# Altium footprint library module&chips.PcbLib: 65 footprints (part 2 of 5)
Each footprint in its own frame and in the unit in brackets; x right, y up, seen from the top. Pads: shape width x height; smd on the part's side, far side on the other; paste and mask are expansions set on the pad; w line width, h text height; cw(c..) or ccw(c..) is an arc to the next point about the centre after c.
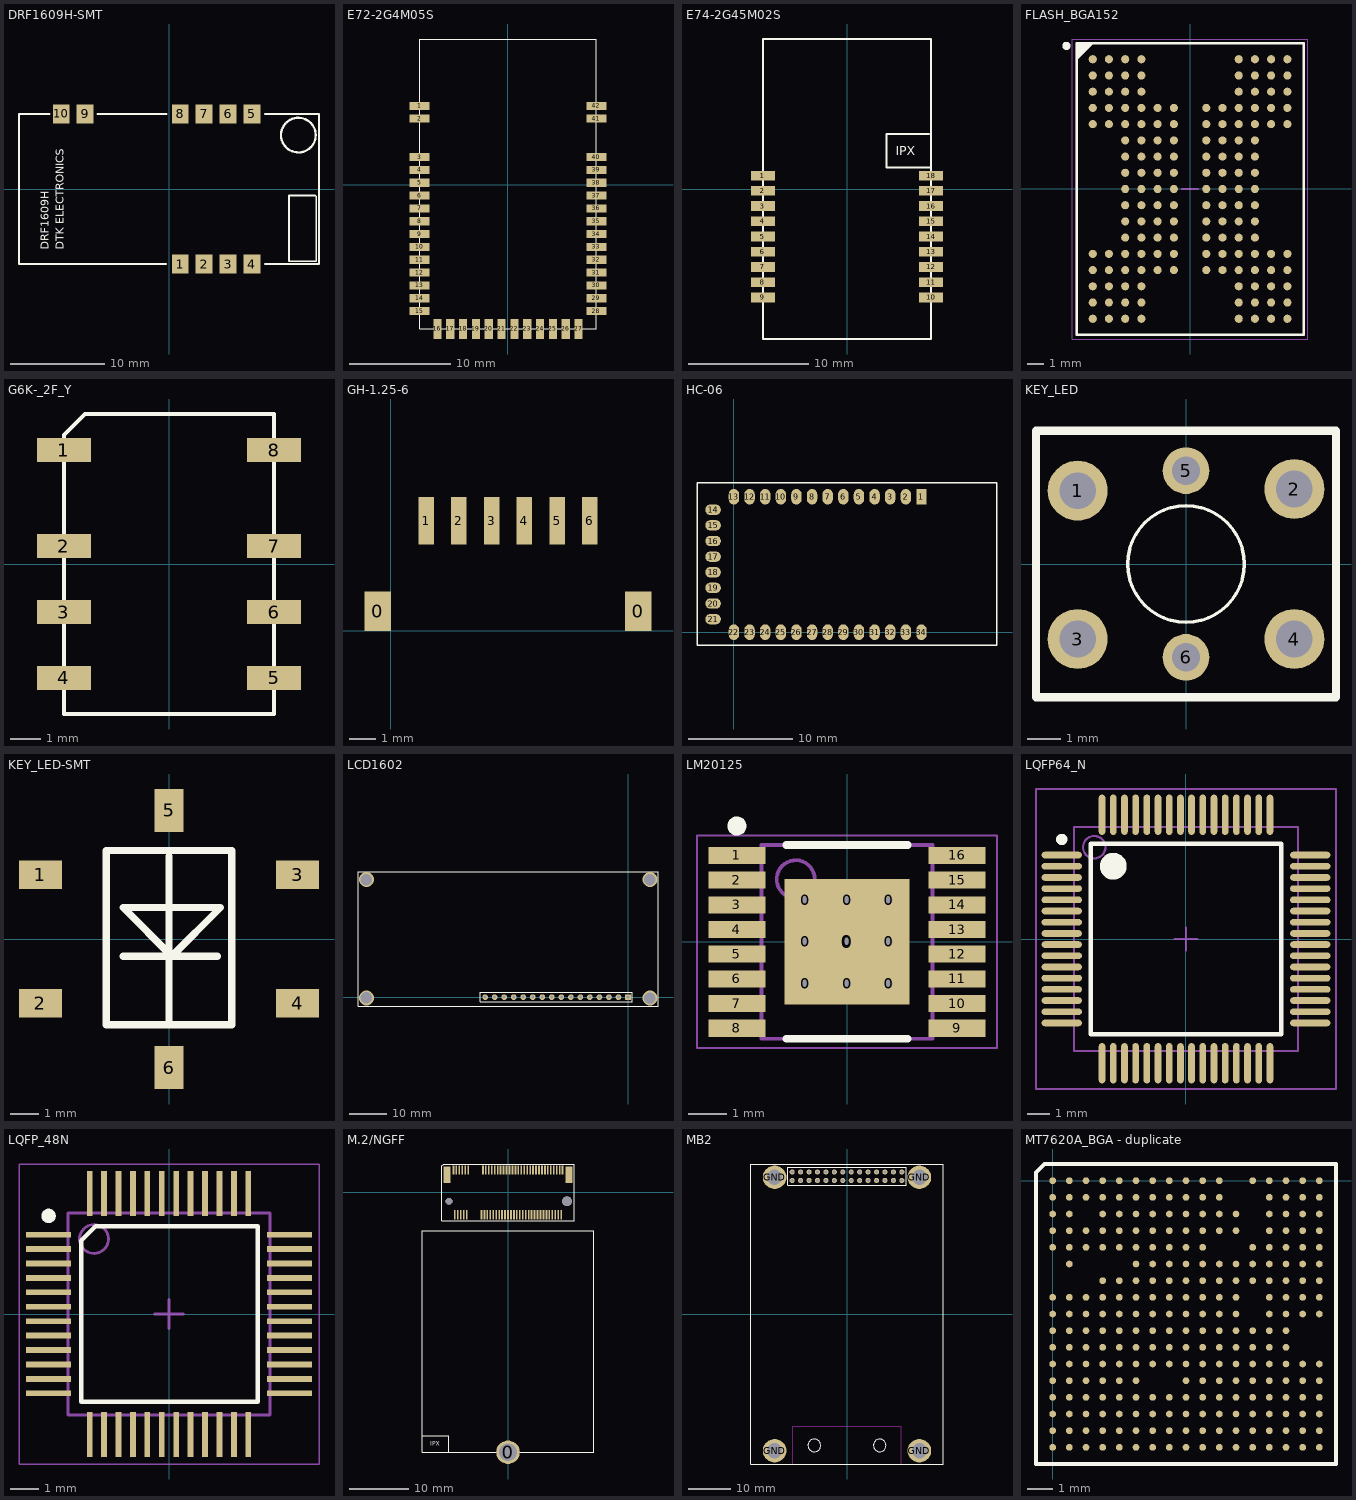
[diagram p1: the footprints below, top view; thin cyan lines are the x and y axes]

## DRF1609H-SMT [mm]
height 3
pads (10):
  rect 1.8x2 smd: 1(1.2,-8) 2(3.75,-8) 3(6.3,-8) 4(8.85,-8) 5(8.85,8) 6(6.3,8) 7(3.75,8) 8(1.2,8) 9(-8.95,8) 10(-11.5,8)
Top Overlay:
  circle w0.25: c13.799,5.75 r1.851
  lines w0.2: -12.75,8 -16,8 -16,-8 -2.7,-8 -0.325,-8 ; -7.65,8 -0.25,8 ; 10.25,-8 16,-8 16,8 10.25,8 ; 12.8,-0.8 12.8,-7.7 15.7,-7.7 15.7,-0.8 ; 12.8,-0.7 15.6,-0.7
  text "DRF1609H" at -12.525,-6.5 h1.5
  text "DTK ELECTRONICS" at -10.9,-6.5 h1.5

## E72-2G4M05S [mm] "低功耗蓝牙"
pads (42):
  rect 2x0.8 smd: 1(-8.71,7.835) 2(-8.71,6.565) 3(-8.71,2.755) 4(-8.71,1.485) 5(-8.71,0.215) 6(-8.71,-1.055) 7(-8.71,-2.325) 8(-8.71,-3.595) 9(-8.71,-4.865) 10(-8.71,-6.135) 11(-8.71,-7.405) 12(-8.71,-8.675) 13(-8.71,-9.945) 14(-8.71,-11.215) 15(-8.71,-12.485) 28(8.79,-12.485) 29(8.79,-11.215) 30(8.79,-9.945) 31(8.79,-8.675) 32(8.79,-7.405) 33(8.79,-6.135) 34(8.79,-4.865) 35(8.79,-3.595) 36(8.79,-2.325) 37(8.79,-1.055) 38(8.79,0.215) 39(8.79,1.485) 40(8.79,2.755) 41(8.79,6.565) 42(8.79,7.835)
  rect 0.8x2 smd: 16(-6.945,-14.25) 17(-5.675,-14.25) 18(-4.405,-14.25) 19(-3.135,-14.25) 20(-1.865,-14.25) 21(-0.595,-14.25) 22(0.675,-14.25) 23(1.945,-14.25) 24(3.215,-14.25) 25(4.485,-14.25) 26(5.755,-14.25) 27(7.025,-14.25)
Top Overlay:
  lines w0.1: -8.71,-14.25 8.79,-14.25 8.79,14.45 -8.71,14.45 -8.71,-14.25

## E74-2G45M02S [mm] "BT"
pads (18):
  rect 2x0.8 smd: 1(-7,1.12) 2(-7,-0.15) 3(-7,-1.42) 4(-7,-2.69) 5(-7,-3.96) 6(-7,-5.23) 7(-7,-6.5) 8(-7,-7.77) 9(-7,-9.04) 10(7,-9.04) 11(7,-7.77) 12(7,-6.5) 13(7,-5.23) 14(7,-3.96) 15(7,-2.69) 16(7,-1.42) 17(7,-0.15) 18(7,1.12)
Top Overlay:
  lines w0.152: 6.858,4.572 3.302,4.572 3.302,1.778 7,1.778 ; -7,-12.5 -7,12.5 7,12.5 7,-12.5 -7,-12.5
  text "IPX" at 4.064,2.794 h0.76

## FLASH_BGA152 [mm]
height 3.5
pads (152):
  round 0.5 smd: A1(-6,8) A2(-5,8) A3(-4,8) A4(-3,8) A10(3,8) A11(4,8) A12(5,8) A13(6,8) B1(-6,7) B2(-5,7) B3(-4,7) B4(-3,7) B10(3,7) B11(4,7) B12(5,7) B13(6,7) C1(-6,6) C2(-5,6) C3(-4,6) C4(-3,6) C10(3,6) C11(4,6) C12(5,6) C13(6,6) D1(-6,5) D2(-5,5) D3(-4,5) D4(-3,5) D5(-2,5) D6(-1,5) D8(1,5) D9(2,5) D10(3,5) D11(4,5) D12(5,5) D13(6,5) E1(-6,4) E2(-5,4) E3(-4,4) E4(-3,4) E5(-2,4) E6(-1,4) E8(1,4) E9(2,4) E10(3,4) E11(4,4) E12(5,4) E13(6,4) F3(-4,3) F4(-3,3) F5(-2,3) F6(-1,3) F8(1,3) F9(2,3) F10(3,3) F11(4,3) G3(-4,2) G4(-3,2) G5(-2,2) G6(-1,2) G8(1,2) G9(2,2) G10(3,2) G11(4,2) H3(-4,1) H4(-3,1) H5(-2,1) H6(-1,1) H8(1,1) H9(2,1) H10(3,1) H11(4,1) J3(-4,0) J4(-3,0) J5(-2,0) J6(-1,0) J8(1,0) J9(2,0) J10(3,0) J11(4,0) K3(-4,-1) K4(-3,-1) K5(-2,-1) K6(-1,-1) K8(1,-1) K9(2,-1) K10(3,-1) K11(4,-1) L3(-4,-2) L4(-3,-2) L5(-2,-2) L6(-1,-2) L8(1,-2) L9(2,-2) L10(3,-2) L11(4,-2) M3(-4,-3) M4(-3,-3) M5(-2,-3) M6(-1,-3) M8(1,-3) M9(2,-3) M10(3,-3) M11(4,-3) N1(-6,-4) N2(-5,-4) N3(-4,-4) N4(-3,-4) N5(-2,-4) N6(-1,-4) N8(1,-4) N9(2,-4) N10(3,-4) N11(4,-4) N12(5,-4) N13(6,-4) P1(-6,-5) P2(-5,-5) P3(-4,-5) P4(-3,-5) P5(-2,-5) P6(-1,-5) P8(1,-5) P9(2,-5) P10(3,-5) P11(4,-5) P12(5,-5) P13(6,-5) R1(-6,-6) R2(-5,-6) R3(-4,-6) R4(-3,-6) R10(3,-6) R11(4,-6) R12(5,-6) R13(6,-6) T1(-6,-7) T2(-5,-7) T3(-4,-7) T4(-3,-7) T10(3,-7) T11(4,-7) T12(5,-7) T13(6,-7) U1(-6,-8) U2(-5,-8) U3(-4,-8) U4(-3,-8) U10(3,-8) U11(4,-8) U12(5,-8) U13(6,-8)
Top Overlay:
  circle w0.25: c-7.626,8.826 r0.125
  region: -6,9 -7,8 -7,9
  lines w0.152: -7,8 -6,9 ; -7,-9 7,-9 7,9 -7,9 -7,-9
Mechanical 13:
  lines w0.1: -7,-9 7,-9 7,9 -7,9 -7,-9
Mechanical 15:
  lines w0.05: -7.25,-9.25 7.25,-9.25 7.25,9.25 -7.25,9.25 -7.25,-9.25
  lines w0.1: -0.5,0 0.5,0
3D body: height 3.5, standoff 0.3, extent -7,-9 7,9

## G6K-_2F_Y [mm] "贴片继电器"
height 5.65
pads (8):
  rect 1.8x0.8 smd: 1(-3.5,3.8) 2(-3.5,0.6) 3(-3.5,-1.6) 4(-3.5,-3.8) 5(3.5,-3.8) 6(3.5,-1.6) 7(3.5,0.6) 8(3.5,3.8)
Top Overlay:
  lines w0.127: -3.5,-5 -3.5,4.3 -2.8,5 3.5,5 3.5,-5 -3.5,-5

## GH-1.25-6 [mm]
pads (8):
  rect 1x1.5 smd: 0(-0.5,0.75) 0(9.45,0.75)
  rect 0.6x1.8 smd: 1(1.35,4.2) 2(2.6,4.2) 3(3.85,4.2) 4(5.1,4.2) 5(6.35,4.2) 6(7.6,4.2)

## HC-06 [mm]
pads (34):
  rect 1x1.5 smd: 1(18,13)
  oval 1x1.5 smd: 2(16.5,13) 3(15,13) 4(13.5,13) 5(12,13) 6(10.5,13) 7(9,13) 8(7.5,13) 9(6,13) 10(4.5,13) 11(3,13) 12(1.5,13) 13(0,13) 22(0,0) 23(1.5,0) 24(3,0) 25(4.5,0) 26(6,0) 27(7.5,0) 28(9,0) 29(10.5,0) 30(12,0) 31(13.5,0) 32(15,0) 33(16.5,0) 34(18,0)
  oval 1.5x1 smd: 14(-2,11.75) 15(-2,10.25) 16(-2,8.75) 17(-2,7.25) 18(-2,5.75) 19(-2,4.25) 20(-2,2.75) 21(-2,1.25)
Top Overlay:
  lines w0.127: -3.544,-1.25 25.25,-1.25 25.25,14.335 -3.544,14.335 -3.544,-1.25

## KEY_LED [mm]
pads (6):
  round 1.8 hole 1.1: 1(-3.25,2.2) 2(3.25,2.25) 3(-3.25,-2.25) 4(3.25,-2.25)
  round 1.4 hole 0.85: 5(0,2.8) 6(0,-2.8)
Top Overlay:
  circle w0.1: c0,0 r1.75
  lines w0.254: -4.5,-4 4.5,-4 4.5,4 -4.5,4 -4.5,-4

## KEY_LED-SMT [mm]
pads (6):
  rect 1.5x1 smd: 1(-4.5,2.25) 3(4.5,2.25)
  rect 1.5x1 smd mask+0.07: 2(-4.5,-2.25) 4(4.5,-2.25)
  rect 1x1.5 smd: 5(0,4.5) 6(0,-4.5)
Top Overlay:
  lines w0.254: -1.6,-0.6 1.7,-0.6 ; 0,-3 0,2.9 ; -2.2,-3 2.2,-3 2.2,3.1 -2.2,3.1 -2.2,-3 ; -1.6,1.1 0.1,-0.6 1.8,1.1 -1.6,1.1

## LCD1602 [mil]
pads (16):
  rect 60x60 hole 30: 1(0,0)
  round 60 hole 30: 2(-100,0) 3(-200,0) 4(-300,0) 5(-400,0) 6(-500,0) 7(-600,0) 8(-700,0) 9(-800,0) 10(-900,0) 11(-1000,0) 12(-1100,0) 13(-1200,0) 14(-1300,0) 15(-1400,0) 16(-1500,0)
via 228.35,1232.28 diameter 157.48 hole 118.11
via -2748.03,1232.28 diameter 157.48 hole 118.11
via -2748.03,-7.87 diameter 157.48 hole 118.11
via 228.35,-11.81 diameter 157.48 hole 118.11
Top Overlay:
  lines w6: -2834.65,-98.43 314.96,-98.43 314.96,1318.9 -2834.65,1318.9 ; -2834.25,-98.43 -2834.25,1318.9
  lines w10: -1550,-50 45,-50 45,50 -1550,50 -1550,-50

## LM20125 [mm] "HTSSOP,16PIN"
height 1.2
pads (26):
  round 0.5 hole 0.2: 0(-1.1,-1.1) 0(-1.1,0) 0(-1.1,1.1) 0(0,-1.1) 0(0,0) 0(0,1.1) 0(1.1,-1.1) 0(1.1,0) 0(1.1,1.1)
  rect 3.3x3.3 smd: 0(0,0)
  rect 1.5x0.45 smd: 1(-2.9,2.275) 2(-2.9,1.625) 3(-2.9,0.975) 4(-2.9,0.325) 5(-2.9,-0.325) 6(-2.9,-0.975) 7(-2.9,-1.625) 8(-2.9,-2.275) 9(2.9,-2.275) 10(2.9,-1.625) 11(2.9,-0.975) 12(2.9,-0.325) 13(2.9,0.325) 14(2.9,0.975) 15(2.9,1.625) 16(2.9,2.275)
Top Overlay:
  circle w0.25: c-2.9,3.05 r0.125
  lines w0.2: -1.6,-2.55 1.6,-2.55 ; -1.6,2.55 1.6,2.55
Mechanical 13:
  circle w0.1: c-1.35,1.65 r0.5
  lines w0.1: -2.25,-2.55 -2.25,2.55 2.25,2.55 2.25,-2.55 -2.25,-2.55
Mechanical 15:
  lines w0.05: -3.95,-2.8 -3.95,2.8 3.95,2.8 3.95,-2.8 -3.95,-2.8
  lines w0.1: -0.5,0 0.5,0 ; 0,-0.5 0,0.5
3D body: height 1.2, standoff 0.25, extent -2.25,-2.55 2.25,2.55

## LQFP64_N [mm] "Thin QFP, 64-Leads, Body 10x10mm, Pitch 0.5mm, IPC Medium Density"
height 1.6
pads (64):
  oval 1.8x0.3 smd: 1(-5.55,3.75) 2(-5.55,3.25) 3(-5.55,2.75) 4(-5.55,2.25) 5(-5.55,1.75) 6(-5.55,1.25) 7(-5.55,0.75) 8(-5.55,0.25) 9(-5.55,-0.25) 10(-5.55,-0.75) 11(-5.55,-1.25) 12(-5.55,-1.75) 13(-5.55,-2.25) 14(-5.55,-2.75) 15(-5.55,-3.25) 16(-5.55,-3.75) 33(5.55,-3.75) 34(5.55,-3.25) 35(5.55,-2.75) 36(5.55,-2.25) 37(5.55,-1.75) 38(5.55,-1.25) 39(5.55,-0.75) 40(5.55,-0.25) 41(5.55,0.25) 42(5.55,0.75) 43(5.55,1.25) 44(5.55,1.75) 45(5.55,2.25) 46(5.55,2.75) 47(5.55,3.25) 48(5.55,3.75)
  oval 0.3x1.8 smd: 17(-3.75,-5.55) 18(-3.25,-5.55) 19(-2.75,-5.55) 20(-2.25,-5.55) 21(-1.75,-5.55) 22(-1.25,-5.55) 23(-0.75,-5.55) 24(-0.25,-5.55) 25(0.25,-5.55) 26(0.75,-5.55) 27(1.25,-5.55) 28(1.75,-5.55) 29(2.25,-5.55) 30(2.75,-5.55) 31(3.25,-5.55) 32(3.75,-5.55) 49(3.75,5.55) 50(3.25,5.55) 51(2.75,5.55) 52(2.25,5.55) 53(1.75,5.55) 54(1.25,5.55) 55(0.75,5.55) 56(0.25,5.55) 57(-0.25,5.55) 58(-0.75,5.55) 59(-1.25,5.55) 60(-1.75,5.55) 61(-2.25,5.55) 62(-2.75,5.55) 63(-3.25,5.55) 64(-3.75,5.55)
Top Overlay:
  circle w0.6: c-3.25,3.25 r0.3
  circle w0.25: c-5.55,4.45 r0.125
  lines w0.2: -4.25,-4.25 4.25,-4.25 4.25,4.25 -4.25,4.25 -4.25,-4.25
Mechanical 13:
  circle w0.1: c-4.1,4.1 r0.5
  lines w0.1: -5,-5 5,-5 5,5 -5,5 -5,-5
Mechanical 15:
  lines w0.1: -0.5,0 0.5,0 ; 0,-0.5 0,0.5 ; -6.7,-6.7 6.7,-6.7 6.7,6.7 -6.7,6.7 -6.7,-6.7
3D body: height 1.6, standoff 0, extent -5,-5 5,5

## LQFP_48N [mm] "LQFP, 48-Leads, Body 9.00x9.00mm, Pitch 0.50mm, IPC Medium Density"
height 1.6
pads (48):
  rect 1.55x0.2 smd: 1(-4.175,2.75) 2(-4.175,2.25) 3(-4.175,1.75) 4(-4.175,1.25) 5(-4.175,0.75) 6(-4.175,0.25) 7(-4.175,-0.25) 8(-4.175,-0.75) 9(-4.175,-1.25) 10(-4.175,-1.75) 11(-4.175,-2.25) 12(-4.175,-2.75) 25(4.175,-2.75) 26(4.175,-2.25) 27(4.175,-1.75) 28(4.175,-1.25) 29(4.175,-0.75) 30(4.175,-0.25) 31(4.175,0.25) 32(4.175,0.75) 33(4.175,1.25) 34(4.175,1.75) 35(4.175,2.25) 36(4.175,2.75)
  rect 0.2x1.55 smd: 13(-2.75,-4.175) 14(-2.25,-4.175) 15(-1.75,-4.175) 16(-1.25,-4.175) 17(-0.75,-4.175) 18(-0.25,-4.175) 19(0.25,-4.175) 20(0.75,-4.175) 21(1.25,-4.175) 22(1.75,-4.175) 23(2.25,-4.175) 24(2.75,-4.175) 37(2.75,4.175) 38(2.25,4.175) 39(1.75,4.175) 40(1.25,4.175) 41(0.75,4.175) 42(0.25,4.175) 43(-0.25,4.175) 44(-0.75,4.175) 45(-1.25,4.175) 46(-1.75,4.175) 47(-2.25,4.175) 48(-2.75,4.175)
Top Overlay:
  circle w0.25: c-4.175,3.4 r0.125
  lines w0.152: -3.048,-3.048 -3.048,2.54 -2.54,3.048 3.075,3.048 3.075,-3.048 -3.048,-3.048
Mechanical 13:
  circle w0.1: c-2.6,2.6 r0.5
  lines w0.1: -3.5,-3.5 -3.5,3.5 3.5,3.5 3.5,-3.5 -3.5,-3.5
Mechanical 15:
  lines w0.05: -5.2,-5.2 -5.2,5.2 5.2,5.2 5.2,-5.2 -5.2,-5.2
  lines w0.1: -0.5,0 0.5,0 ; 0,-0.5 0,0.5
3D body: height 1.6, standoff 0.05, extent -3.5,-3.5 3.5,3.5

## M.2/NGFF [mm] "PICO"
pads (70):
  rect 1.2x2.75 smd: 0(-10.35,3) 0(10.35,3)
  round 4 hole 3: 0(0,-44)
  rect 0.3x1.55 smd: 1(-9.25,3.785) 2(-9,-3.785) 3(-8.75,3.785) 4(-8.5,-3.785) 5(-8.25,3.785) 6(-8,-3.785) 7(-7.75,3.785) 8(-7.5,-3.785) 9(-7.25,3.785) 10(-7,-3.785) 11(-6.75,3.785) 20(-4.5,-3.785) 21(-4.25,3.785) 22(-4,-3.785) 23(-3.75,3.785) 24(-3.5,-3.785) 25(-3.25,3.785) 26(-3,-3.785) 27(-2.75,3.785) 28(-2.5,-3.785) 29(-2.25,3.785) 30(-2,-3.785) 31(-1.75,3.785) 32(-1.5,-3.785) 33(-1.25,3.785) 34(-1,-3.785) 35(-0.75,3.785) 36(-0.5,-3.785) 37(-0.25,3.785) 38(0,-3.785) 39(0.25,3.785) 40(0.5,-3.785) 41(0.75,3.785) 42(1,-3.785) 43(1.25,3.785) 44(1.5,-3.785) 45(1.75,3.785) 46(2,-3.785) 47(2.25,3.785) 48(2.5,-3.785) 49(2.75,3.785) 50(3,-3.785) 51(3.25,3.785) 52(3.5,-3.785) 53(3.75,3.785) 54(4,-3.785) 55(4.25,3.785) 56(4.5,-3.785) 57(4.75,3.785) 58(5,-3.785) 59(5.25,3.785) 60(5.5,-3.785) 61(5.75,3.785) 62(6,-3.785) 63(6.25,3.785) 64(6.5,-3.785) 65(6.75,3.785) 66(7,-3.785) 67(7.25,3.785) 68(7.5,-3.785) 69(7.75,3.785) 70(8,-3.785) 71(8.25,3.785) 72(8.5,-3.785) 73(8.75,3.785) 74(9,-3.785) 75(9.25,3.785)
via -10,-1.5 diameter 1.15 hole 1.15
via 10,-1.5 diameter 1.65 hole 1.65
Top Overlay:
  lines w0.152: -14.5,-41.25 -10,-41.25 -10,-44 ; -10.8,4.8 -10.8,4.8 ; -10.8,4.8 -10.8,4.8 ; -14.5,-44 -14.5,-6.5 14.5,-6.5 14.5,-44 -14.5,-44 ; -11.2,-4.8 -11.2,4.5 -10.9,4.8 11.2,4.8 11.2,-4.8 -11.2,-4.8
  text "IPX" at -13.208,-42.926 h0.76

## MB2 [mm] "MB2"
pads (32):
  round 1.2 hole 0.8: 1(-13,33.65) 2(-13,31.65) 3(-11,33.65) 4(-11,31.65) 5(-9,33.65) 6(-9,31.65) 7(-7,33.65) 8(-7,31.65) 9(-5,33.65) 10(-5,31.65) 11(-3,33.65) 12(-3,31.65) 13(-1,33.65) 14(-1,31.65) 15(1,33.65) 16(1,31.65) 17(3,33.65) 18(3,31.65) 19(5,33.65) 20(5,31.65) 21(7,33.65) 22(7,31.65) 23(9,33.65) 24(9,31.65) 25(11,33.65) 26(11,31.65) 27(13,33.65) 28(13,31.65)
  round 5.6 hole 3.6: GND(-17.15,-32.4) GND(-17.15,32.4) GND(17.15,-32.4) GND(17.15,32.4)
Top Overlay:
  circle w0.152: c7.75,-31.15 r1.5
  circle w0.152: c-7.75,-31.15 r1.5
  lines w0.152: -22.85,-35.55 -22.85,35.55 22.85,35.55 22.85,-35.55 -22.85,-35.55 ; -14,30.5 -14,34.8 14,34.8 14,30.5 -14,30.5
Keep-Out Layer:
  lines w0.152: -12.85,-35.55 -12.85,-26.55 12.85,-26.55 12.85,-35.55

## MT7620A_BGA - duplicate [mm]
pads (266):
  round 0.26 smd: A1(0,0) A2(0.65,0) A3(1.3,0) A4(1.95,0) A5(2.6,0) A6(3.25,0) A7(3.9,0) A8(4.55,0) A9(5.2,0) A10(5.85,0) A11(6.5,0) A13(7.8,0) A14(8.45,0) A15(9.1,0) A16(9.75,0) A17(10.4,0) B1(0,-0.65) B2(0.65,-0.65) B3(1.3,-0.65) B4(1.95,-0.65) B5(2.6,-0.65) B6(3.25,-0.65) B7(3.9,-0.65) B8(4.55,-0.65) B9(5.2,-0.65) B10(5.85,-0.65) B11(6.5,-0.65) B14(8.45,-0.65) B15(9.1,-0.65) B16(9.75,-0.65) B17(10.4,-0.65) C1(0,-1.3) C2(0.65,-1.3) C4(1.95,-1.3) C5(2.6,-1.3) C6(3.25,-1.3) C7(3.9,-1.3) C8(4.55,-1.3) C9(5.2,-1.3) C10(5.85,-1.3) C11(6.5,-1.3) C12(7.15,-1.3) C14(8.45,-1.3) C15(9.1,-1.3) C16(9.75,-1.3) C17(10.4,-1.3) D1(0,-1.95) D2(0.65,-1.95) D3(1.3,-1.95) D4(1.95,-1.95) D5(2.6,-1.95) D6(3.25,-1.95) D7(3.9,-1.95) D8(4.55,-1.95) D9(5.2,-1.95) D10(5.85,-1.95) D11(6.5,-1.95) D12(7.15,-1.95) D14(8.45,-1.95) D15(9.1,-1.95) D16(9.75,-1.95) D17(10.4,-1.95) E1(0,-2.6) E2(0.65,-2.6) E3(1.3,-2.6) E4(1.95,-2.6) E5(2.6,-2.6) E6(3.25,-2.6) E7(3.9,-2.6) E8(4.55,-2.6) E9(5.2,-2.6) E10(5.85,-2.6) E13(7.8,-2.6) E14(8.45,-2.6) E15(9.1,-2.6) E16(9.75,-2.6) E17(10.4,-2.6) F2(0.65,-3.25) F6(3.25,-3.25) F7(3.9,-3.25) F8(4.55,-3.25) F9(5.2,-3.25) F10(5.85,-3.25) F11(6.5,-3.25) F12(7.15,-3.25) F13(7.8,-3.25) F14(8.45,-3.25) F15(9.1,-3.25) F16(9.75,-3.25) F17(10.4,-3.25) G4(1.95,-3.9) G5(2.6,-3.9) G6(3.25,-3.9) G7(3.9,-3.9) G8(4.55,-3.9) G9(5.2,-3.9) G10(5.85,-3.9) G11(6.5,-3.9) G12(7.15,-3.9) G13(7.8,-3.9) G14(8.45,-3.9) G15(9.1,-3.9) G16(9.75,-3.9) G17(10.4,-3.9) H1(0,-4.55) H2(0.65,-4.55) H3(1.3,-4.55) H4(1.95,-4.55) H5(2.6,-4.55) H6(3.25,-4.55) H7(3.9,-4.55) H8(4.55,-4.55) H9(5.2,-4.55) H10(5.85,-4.55) H11(6.5,-4.55) H12(7.15,-4.55) H14(8.45,-4.55) H15(9.1,-4.55) H16(9.75,-4.55) H17(10.4,-4.55) J1(0,-5.2) J2(0.65,-5.2) J3(1.3,-5.2) J4(1.95,-5.2) J5(2.6,-5.2) J6(3.25,-5.2) J7(3.9,-5.2) J8(4.55,-5.2) J9(5.2,-5.2) J10(5.85,-5.2) J11(6.5,-5.2) J12(7.15,-5.2) J14(8.45,-5.2) J15(9.1,-5.2) J16(9.75,-5.2) J17(10.4,-5.2) K1(0,-5.85) K2(0.65,-5.85) K3(1.3,-5.85) K4(1.95,-5.85) K5(2.6,-5.85) K6(3.25,-5.85) K7(3.9,-5.85) K8(4.55,-5.85) K9(5.2,-5.85) K10(5.85,-5.85) K11(6.5,-5.85) K12(7.15,-5.85) K13(7.8,-5.85) K14(8.45,-5.85) K15(9.1,-5.85) L1(0,-6.5) L2(0.65,-6.5) L3(1.3,-6.5) L4(1.95,-6.5) L5(2.6,-6.5) L6(3.25,-6.5) L7(3.9,-6.5) L8(4.55,-6.5) L9(5.2,-6.5) L10(5.85,-6.5) L11(6.5,-6.5) L12(7.15,-6.5) L13(7.8,-6.5) L14(8.45,-6.5) L15(9.1,-6.5) M1(0,-7.15) M2(0.65,-7.15) M3(1.3,-7.15) M4(1.95,-7.15) M5(2.6,-7.15) M6(3.25,-7.15) M7(3.9,-7.15) M8(4.55,-7.15) M9(5.2,-7.15) M10(5.85,-7.15) M11(6.5,-7.15) M12(7.15,-7.15) M13(7.8,-7.15) M14(8.45,-7.15) M15(9.1,-7.15) M16(9.75,-7.15) M17(10.4,-7.15) N1(0,-7.8) N2(0.65,-7.8) N3(1.3,-7.8) N4(1.95,-7.8) N5(2.6,-7.8) N6(3.25,-7.8) N9(5.2,-7.8) N10(5.85,-7.8) N11(6.5,-7.8) N12(7.15,-7.8) N13(7.8,-7.8) N14(8.45,-7.8) N15(9.1,-7.8) N16(9.75,-7.8) N17(10.4,-7.8) P1(0,-8.45) P2(0.65,-8.45) P3(1.3,-8.45) P4(1.95,-8.45) P5(2.6,-8.45) P6(3.25,-8.45) P7(3.9,-8.45) P8(4.55,-8.45) P9(5.2,-8.45) P10(5.85,-8.45) P11(6.5,-8.45) P12(7.15,-8.45) P13(7.8,-8.45) P14(8.45,-8.45) P15(9.1,-8.45) P16(9.75,-8.45) P17(10.4,-8.45) R1(0,-9.1) R2(0.65,-9.1) R3(1.3,-9.1) R4(1.95,-9.1) R5(2.6,-9.1) R6(3.25,-9.1) R7(3.9,-9.1) R8(4.55,-9.1) R9(5.2,-9.1) R10(5.85,-9.1) R11(6.5,-9.1) R12(7.15,-9.1) R13(7.8,-9.1) R14(8.45,-9.1) R15(9.1,-9.1) R16(9.75,-9.1) R17(10.4,-9.1) T1(0,-9.75) T2(0.65,-9.75) T3(1.3,-9.75) T4(1.95,-9.75) T5(2.6,-9.75) T6(3.25,-9.75) T7(3.9,-9.75) T8(4.55,-9.75) T9(5.2,-9.75) T10(5.85,-9.75) T11(6.5,-9.75) T12(7.15,-9.75) T13(7.8,-9.75) T14(8.45,-9.75) T15(9.1,-9.75) T16(9.75,-9.75) T17(10.4,-9.75) U1(0,-10.4) U2(0.65,-10.4) U3(1.3,-10.4) U4(1.95,-10.4) U5(2.6,-10.4) U6(3.25,-10.4) U7(3.9,-10.4) U8(4.55,-10.4) U9(5.2,-10.4) U10(5.85,-10.4) U11(6.5,-10.4) U12(7.15,-10.4) U13(7.8,-10.4) U14(8.45,-10.4) U15(9.1,-10.4) U16(9.75,-10.4) U17(10.4,-10.4)
Top Overlay:
  lines w0.152: -0.65,-11.05 -0.65,0.325 -0.325,0.65 11.05,0.65 11.05,-11.05 -0.65,-11.05